# Altium schematic symbol library KSZ8721BL.SchLib: 1 symbol
Pins are listed as number, name and electrical type; pins without a type are passive.

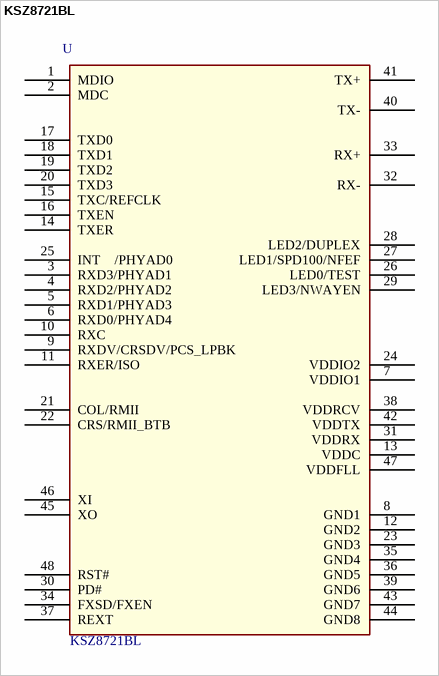
[diagram p0: symbol KSZ8721BL]

## KSZ8721BL
designator U  value KSZ8721BL  (hidden comment: *)
Manufacturer: MICREL Semiconductor; Manufacturer Code: KSZ8721BL; Farnell Code: 1517240; Unit Price: 5,83 €
footprint LQFP-48 (Footprint not found)
pins: 1 MDIO, 2 MDC, 3 RXD3/PHYAD1, 4 RXD2/PHYAD2, 5 RXD1/PHYAD3, 6 RXD0/PHYAD4, 7 VDDIO1, 8 GND1, 9 RXDV/CRSDV/PCS_LPBK, 10 RXC, 11 RXER/ISO, 12 GND2, 13 VDDC, 14 TXER, 15 TXC/REFCLK, 16 TXEN, 17 TXD0, 18 TXD1, 19 TXD2, 20 TXD3, 21 COL/RMII, 22 CRS/RMII_BTB, 23 GND3, 24 VDDIO2, 25 INT    /PHYAD0, 26 LED0/TEST, 27 LED1/SPD100/NFEF, 28 LED2/DUPLEX, 29 LED3/NWAYEN, 30 PD#, 31 VDDRX, 32 RX-, 33 RX+, 34 FXSD/FXEN, 35 GND4, 36 GND5, 37 REXT, 38 VDDRCV, 39 GND6, 40 TX-, 41 TX+, 42 VDDTX, 43 GND7, 44 GND8, 45 XO, 46 XI, 47 VDDFLL, 48 RST#